# EAGLE library part 74HC4053_MUX (library MBI)
3 channel 2:1 analog mux
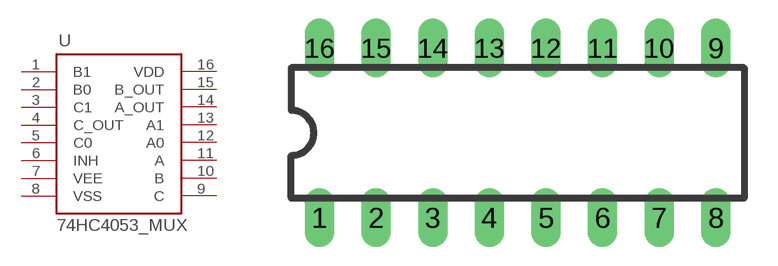
[diagram p3: symbol with the pads of DIL16; footprint DIL16]

Designator prefix -

## 74HC4053_MUX  [DIL16]
1  B1
2  B0
3  C1
4  C_OUT
5  C0
6  INH
7  VEE
8  VSS
9  C
10  B
11  A
12  A0
13  A1
14  A_OUT
15  B_OUT
16  VDD

## Footprint DIL16 (pad centres in mm)
Dual In Line Package
drill 0.813 long: 1 -8.89,-3.81; 2 -6.35,-3.81; 3 -3.81,-3.81; 4 -1.27,-3.81; 5 1.27,-3.81; 6 3.81,-3.81; 7 6.35,-3.81; 8 8.89,-3.81; 9 8.89,3.81; 10 6.35,3.81; 11 3.81,3.81; 12 1.27,3.81; 13 -1.27,3.81; 14 -3.81,3.81; 15 -6.35,3.81; 16 -8.89,3.81